# Altium footprint library dip14.PcbLib: 1 footprints
Each footprint in its own frame and in the unit in brackets; x right, y up, seen from the top. Pads: shape width x height; smd on the part's side, far side on the other; paste and mask are expansions set on the pad; w line width, h text height; cw(c..) or ccw(c..) is an arc to the next point about the centre after c.
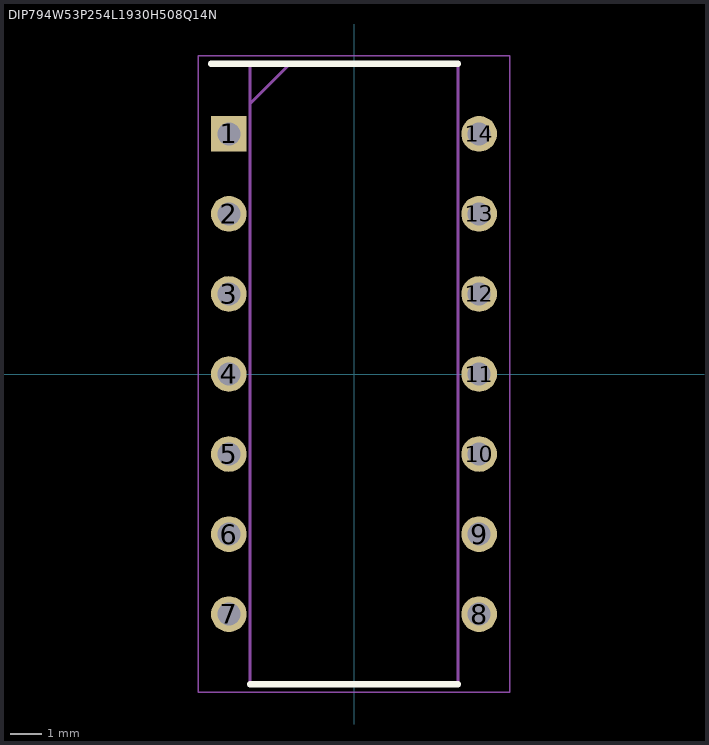
[diagram p0: the footprint, top view; thin cyan lines are the x and y axes]

## DIP794W53P254L1930H508Q14N [mm]
pads (14):
  rect 1.13x1.13 hole 0.73: 1(-3.97,7.62)
  round 1.13 hole 0.73: 2(-3.97,5.08) 3(-3.97,2.54) 4(-3.97,0) 5(-3.97,-2.54) 6(-3.97,-5.08) 7(-3.97,-7.62) 8(3.97,-7.62) 9(3.97,-5.08) 10(3.97,-2.54) 11(3.97,0) 12(3.97,2.54) 13(3.97,5.08) 14(3.97,7.62)
Top Overlay:
  lines w0.2: -4.535,9.845 3.3,9.845 ; -3.3,-9.845 3.3,-9.845
Mechanical 13:
  lines w0.1: -3.3,8.575 -2.03,9.845 ; -3.3,-9.845 -3.3,9.845 3.3,9.845 3.3,-9.845 -3.3,-9.845
Mechanical 15:
  lines w0.05: -4.945,-10.095 -4.945,10.095 4.945,10.095 4.945,-10.095 -4.945,-10.095
3D body "SN74LS92N.stp": height 5.27, standoff -3.1, extent -4.191,-9.842 3.683,9.843